# Altium footprint library Pt100.PcbLib: 1 footprints
Each footprint in its own frame and in the unit in brackets; x right, y up, seen from the top. Pads: shape width x height; smd on the part's side, far side on the other; paste and mask are expansions set on the pad; w line width, h text height; cw(c..) or ccw(c..) is an arc to the next point about the centre after c.
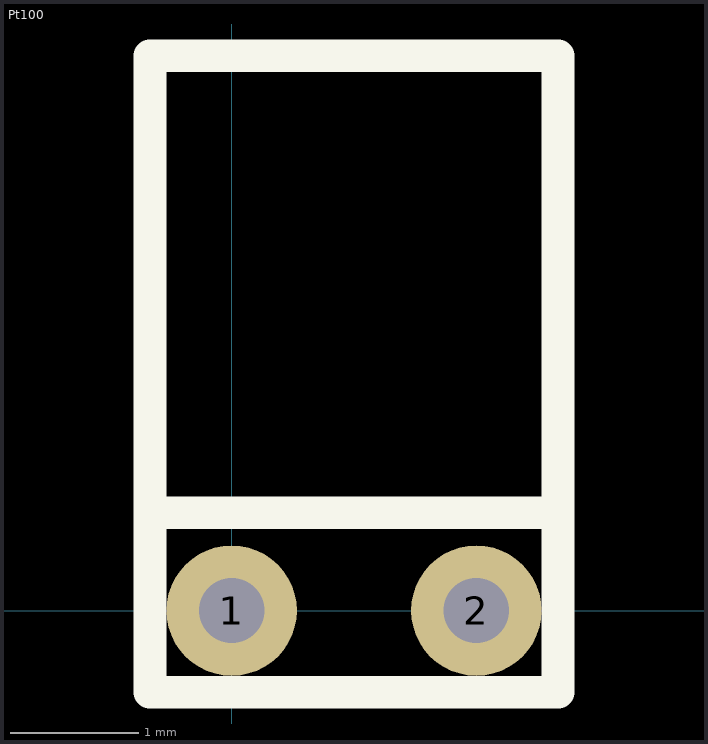
[diagram p0: the footprint, top view; thin cyan lines are the x and y axes]

## Pt100 [mil]
pads (2):
  round 40 hole 20: 1(0,0) 2(75,0)
Top Overlay:
  lines w10: -25,30 -25,-25 100,-25 100,30 ; -25,30 100,30 ; -25,30 -25,170 100,170 100,30
3D body: height 40, standoff 0, extent 15,45 55,165